# Altium schematic symbol library ESP32.SchLib: 1 symbol
Pins are listed as number, name and electrical type; pins without a type are passive.

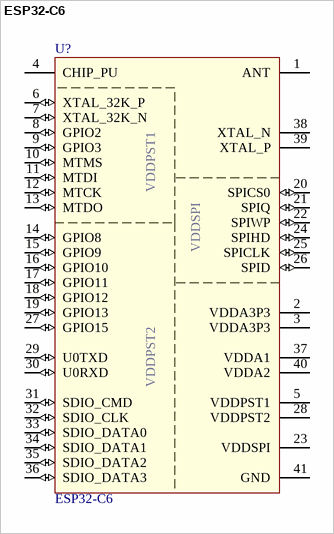
[diagram p0: symbol ESP32-C6]

## ESP32-C6
designator U?
Ultra-low-power SoC with RISC-V single-core microprocessor / 2.4 GHz Wi-Fi 6 (802.11ax), Bluetooth® 5 (LE), Zigbee and Thread (802.15.4); value: ESP32-C6
pins: 1 ANT, 2 VDDA3P3 (power), 3 VDDA3P3 (power), 4 CHIP_PU, 5 VDDPST1 (power), 6 XTAL_32K_P (io), 7 XTAL_32K_N (io), 8 GPIO2 (io), 9 GPIO3 (io), 10 MTMS (io), 11 MTDI (io), 12 MTCK (io), 13 MTDO (io), 14 GPIO8 (io), 15 GPIO9 (io), 16 GPIO10 (io), 17 GPIO11 (io), 18 GPIO12 (io), 19 GPIO13 (io), 20 SPICS0 (io), 21 SPIQ (io), 22 SPIWP (io), 23 VDDSPI (power), 24 SPIHD (io), 25 SPICLK (io), 26 SPID (io), 27 GPIO15 (io), 28 VDDPST2 (power), 29 U0TXD (io), 30 U0RXD (io), 31 SDIO_CMD (io), 32 SDIO_CLK (io), 33 SDIO_DATA0 (io), 34 SDIO_DATA1 (io), 35 SDIO_DATA2 (io), 36 SDIO_DATA3 (io), 37 VDDA1 (power), 38 XTAL_N, 39 XTAL_P, 40 VDDA2 (power), 41 GND (power)